# Altium schematic symbol library SCH - MCU - INFINEON XMC - INFINEON XMC4200F64.SchLib: 1 symbol
Pins are listed as number, name and electrical type; pins without a type are passive.

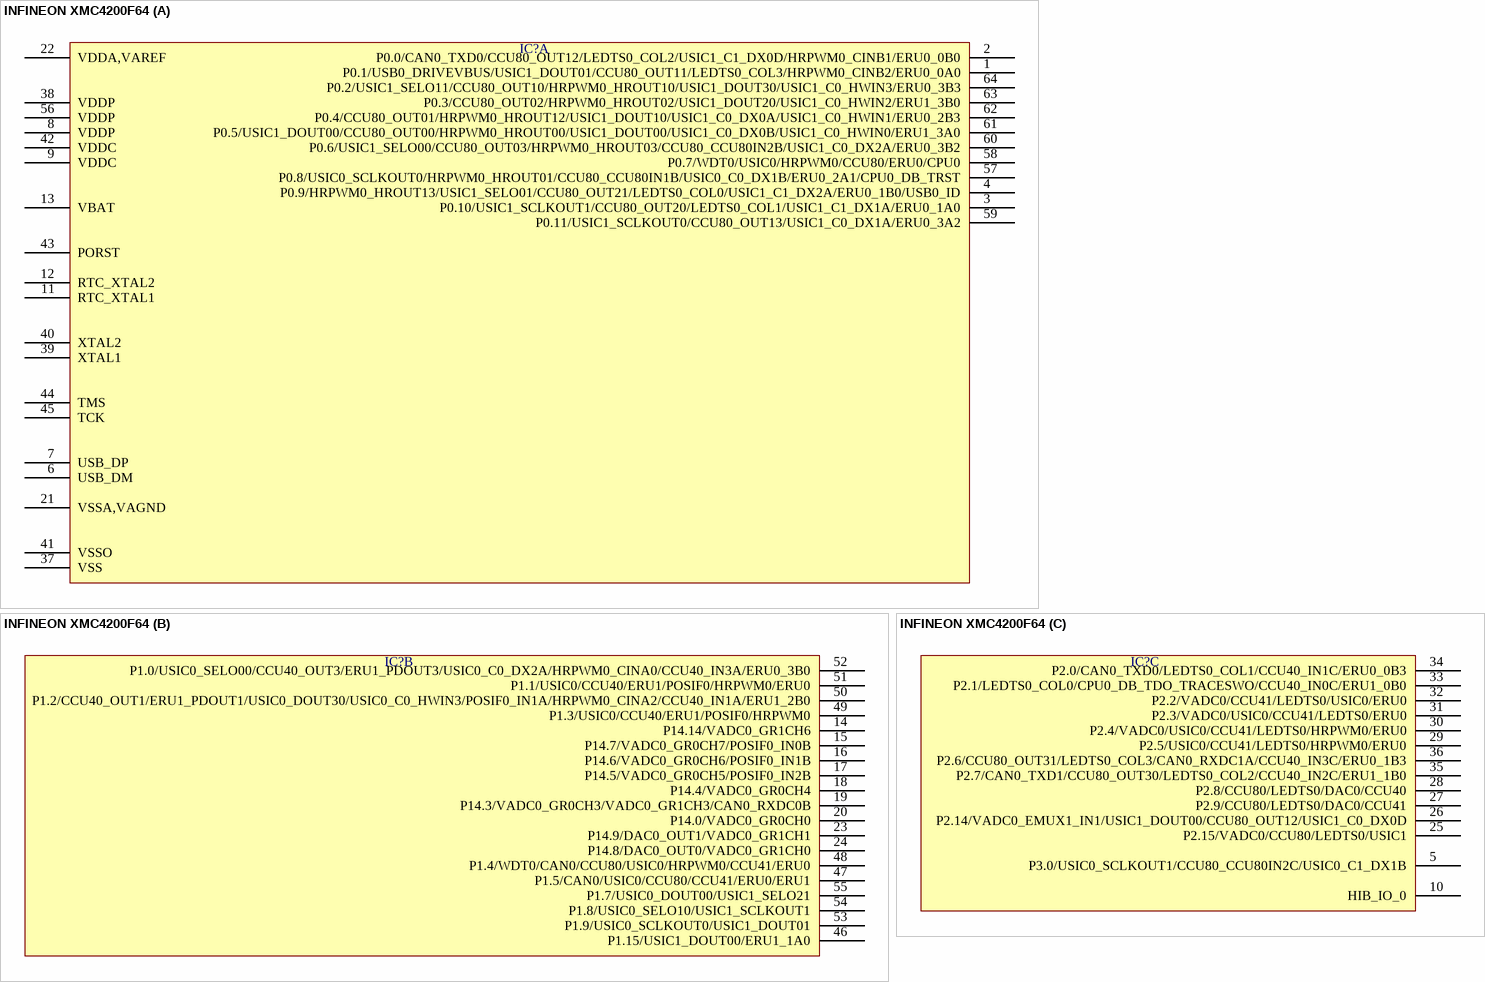
[diagram p0: symbol INFINEON XMC4200F64]

## INFINEON XMC4200F64
designator IC?  (value not drawn)
part A pins: 1 P0.1/USB0_DRIVEVBUS/USIC1_DOUT01/CCU80_OUT11/LEDTS0_COL3/HRPWM0_CINB2/ERU0_0A0, 2 P0.0/CAN0_TXD0/CCU80_OUT12/LEDTS0_COL2/USIC1_C1_DX0D/HRPWM0_CINB1/ERU0_0B0, 3 P0.10/USIC1_SCLKOUT1/CCU80_OUT20/LEDTS0_COL1/USIC1_C1_DX1A/ERU0_1A0, 4 P0.9/HRPWM0_HROUT13/USIC1_SELO01/CCU80_OUT21/LEDTS0_COL0/USIC1_C1_DX2A/ERU0_1B0/USB0_ID, 6 USB_DM, 7 USB_DP, 8 VDDP, 9 VDDC, 11 RTC_XTAL1, 12 RTC_XTAL2, 13 VBAT, 21 VSSA,VAGND, 22 VDDA,VAREF, 37 VSS, 38 VDDP, 39 XTAL1, 40 XTAL2, 41 VSSO, 42 VDDC, 43 PORST, 44 TMS, 45 TCK, 56 VDDP, 57 P0.8/USIC0_SCLKOUT0/HRPWM0_HROUT01/CCU80_CCU80IN1B/USIC0_C0_DX1B/ERU0_2A1/CPU0_DB_TRST, 58 P0.7/WDT0/USIC0/HRPWM0/CCU80/ERU0/CPU0, 59 P0.11/USIC1_SCLKOUT0/CCU80_OUT13/USIC1_C0_DX1A/ERU0_3A2, 60 P0.6/USIC1_SELO00/CCU80_OUT03/HRPWM0_HROUT03/CCU80_CCU80IN2B/USIC1_C0_DX2A/ERU0_3B2, 61 P0.5/USIC1_DOUT00/CCU80_OUT00/HRPWM0_HROUT00/USIC1_DOUT00/USIC1_C0_DX0B/USIC1_C0_HWIN0/ERU1_3A0, 62 P0.4/CCU80_OUT01/HRPWM0_HROUT12/USIC1_DOUT10/USIC1_C0_DX0A/USIC1_C0_HWIN1/ERU0_2B3, 63 P0.3/CCU80_OUT02/HRPWM0_HROUT02/USIC1_DOUT20/USIC1_C0_HWIN2/ERU1_3B0, 64 P0.2/USIC1_SELO11/CCU80_OUT10/HRPWM0_HROUT10/USIC1_DOUT30/USIC1_C0_HWIN3/ERU0_3B3
part B pins: 14 P14.14/VADC0_GR1CH6, 15 P14.7/VADC0_GR0CH7/POSIF0_IN0B, 16 P14.6/VADC0_GR0CH6/POSIF0_IN1B, 17 P14.5/VADC0_GR0CH5/POSIF0_IN2B, 18 P14.4/VADC0_GR0CH4, 19 P14.3/VADC0_GR0CH3/VADC0_GR1CH3/CAN0_RXDC0B, 20 P14.0/VADC0_GR0CH0, 23 P14.9/DAC0_OUT1/VADC0_GR1CH1, 24 P14.8/DAC0_OUT0/VADC0_GR1CH0, 46 P1.15/USIC1_DOUT00/ERU1_1A0, 47 P1.5/CAN0/USIC0/CCU80/CCU41/ERU0/ERU1, 48 P1.4/WDT0/CAN0/CCU80/USIC0/HRPWM0/CCU41/ERU0, 49 P1.3/USIC0/CCU40/ERU1/POSIF0/HRPWM0, 50 P1.2/CCU40_OUT1/ERU1_PDOUT1/USIC0_DOUT30/USIC0_C0_HWIN3/POSIF0_IN1A/HRPWM0_CINA2/CCU40_IN1A/ERU1_2B0, 51 P1.1/USIC0/CCU40/ERU1/POSIF0/HRPWM0/ERU0, 52 P1.0/USIC0_SELO00/CCU40_OUT3/ERU1_PDOUT3/USIC0_C0_DX2A/HRPWM0_CINA0/CCU40_IN3A/ERU0_3B0, 53 P1.9/USIC0_SCLKOUT0/USIC1_DOUT01, 54 P1.8/USIC0_SELO10/USIC1_SCLKOUT1, 55 P1.7/USIC0_DOUT00/USIC1_SELO21
part C pins: 5 P3.0/USIC0_SCLKOUT1/CCU80_CCU80IN2C/USIC0_C1_DX1B, 10 HIB_IO_0, 25 P2.15/VADC0/CCU80/LEDTS0/USIC1, 26 P2.14/VADC0_EMUX1_IN1/USIC1_DOUT00/CCU80_OUT12/USIC1_C0_DX0D, 27 P2.9/CCU80/LEDTS0/DAC0/CCU41, 28 P2.8/CCU80/LEDTS0/DAC0/CCU40, 29 P2.5/USIC0/CCU41/LEDTS0/HRPWM0/ERU0, 30 P2.4/VADC0/USIC0/CCU41/LEDTS0/HRPWM0/ERU0, 31 P2.3/VADC0/USIC0/CCU41/LEDTS0/ERU0, 32 P2.2/VADC0/CCU41/LEDTS0/USIC0/ERU0, 33 P2.1/LEDTS0_COL0/CPU0_DB_TDO_TRACESWO/CCU40_IN0C/ERU1_0B0, 34 P2.0/CAN0_TXD0/LEDTS0_COL1/CCU40_IN1C/ERU0_0B3, 35 P2.7/CAN0_TXD1/CCU80_OUT30/LEDTS0_COL2/CCU40_IN2C/ERU1_1B0, 36 P2.6/CCU80_OUT31/LEDTS0_COL3/CAN0_RXDC1A/CCU40_IN3C/ERU0_1B3